# Altium footprint library SW_100DP3T1B1M2QEH.PcbLib: 1 footprints
Each footprint in its own frame and in the unit in brackets; x right, y up, seen from the top. Pads: shape width x height; smd on the part's side, far side on the other; paste and mask are expansions set on the pad; w line width, h text height; cw(c..) or ccw(c..) is an arc to the next point about the centre after c.
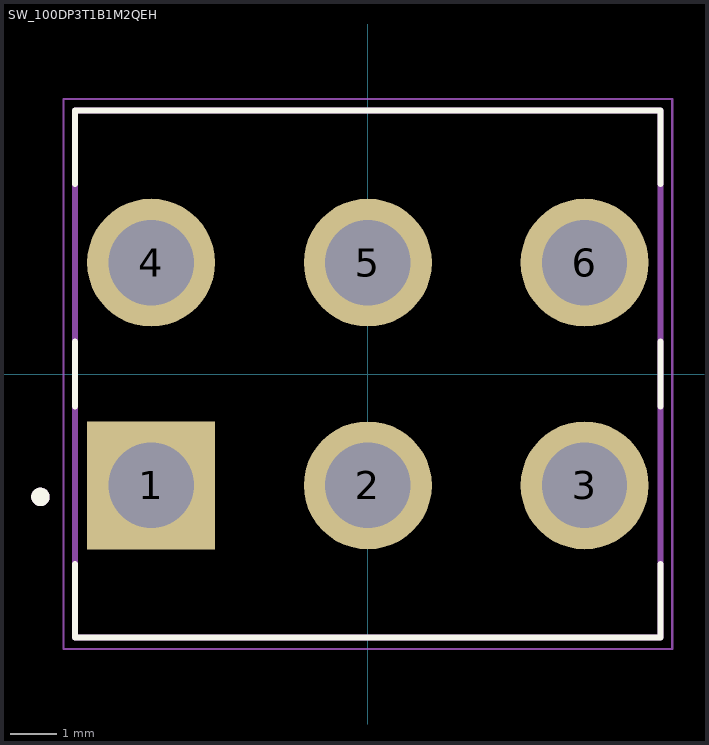
[diagram p0: the footprint, top view; thin cyan lines are the x and y axes]

## SW_100DP3T1B1M2QEH [mm]
height 29.99
pads (6):
  rect 2.775x2.775 hole 1.85: 1(-4.7,-2.415)
  round 2.775 hole 1.85: 2(0,-2.415) 3(4.7,-2.415) 4(-4.7,2.415) 5(0,2.415) 6(4.7,2.415)
Top Overlay:
  circle w0.2: c-7.1,-2.665 r0.1
  lines w0.127: -6.35,-4.122 -6.35,-5.715 6.35,-5.715 6.35,-4.122 ; -6.35,-0.707 -6.35,0.707 ; -6.35,4.122 -6.35,5.715 6.35,5.715 6.35,4.122 ; 6.35,-0.707 6.35,0.707
Mechanical 13:
  circle w0.2: c-7.1,-2.665 r0.1
  lines w0.127: -6.35,-5.715 6.35,-5.715 6.35,5.715 -6.35,5.715 -6.35,-5.715
Mechanical 15:
  lines w0.05: -6.6,-5.965 -6.6,5.965 6.6,5.965 6.6,-5.965 -6.6,-5.965